# Altium footprint library con-pc.PCBLIB: 18 footprints (part 2 of 2)
Each footprint in its own frame and in the unit in brackets; x right, y up, seen from the top. Pads: shape width x height; smd on the part's side, far side on the other; paste and mask are expansions set on the pad; w line width, h text height; cw(c..) or ccw(c..) is an arc to the next point about the centre after c.
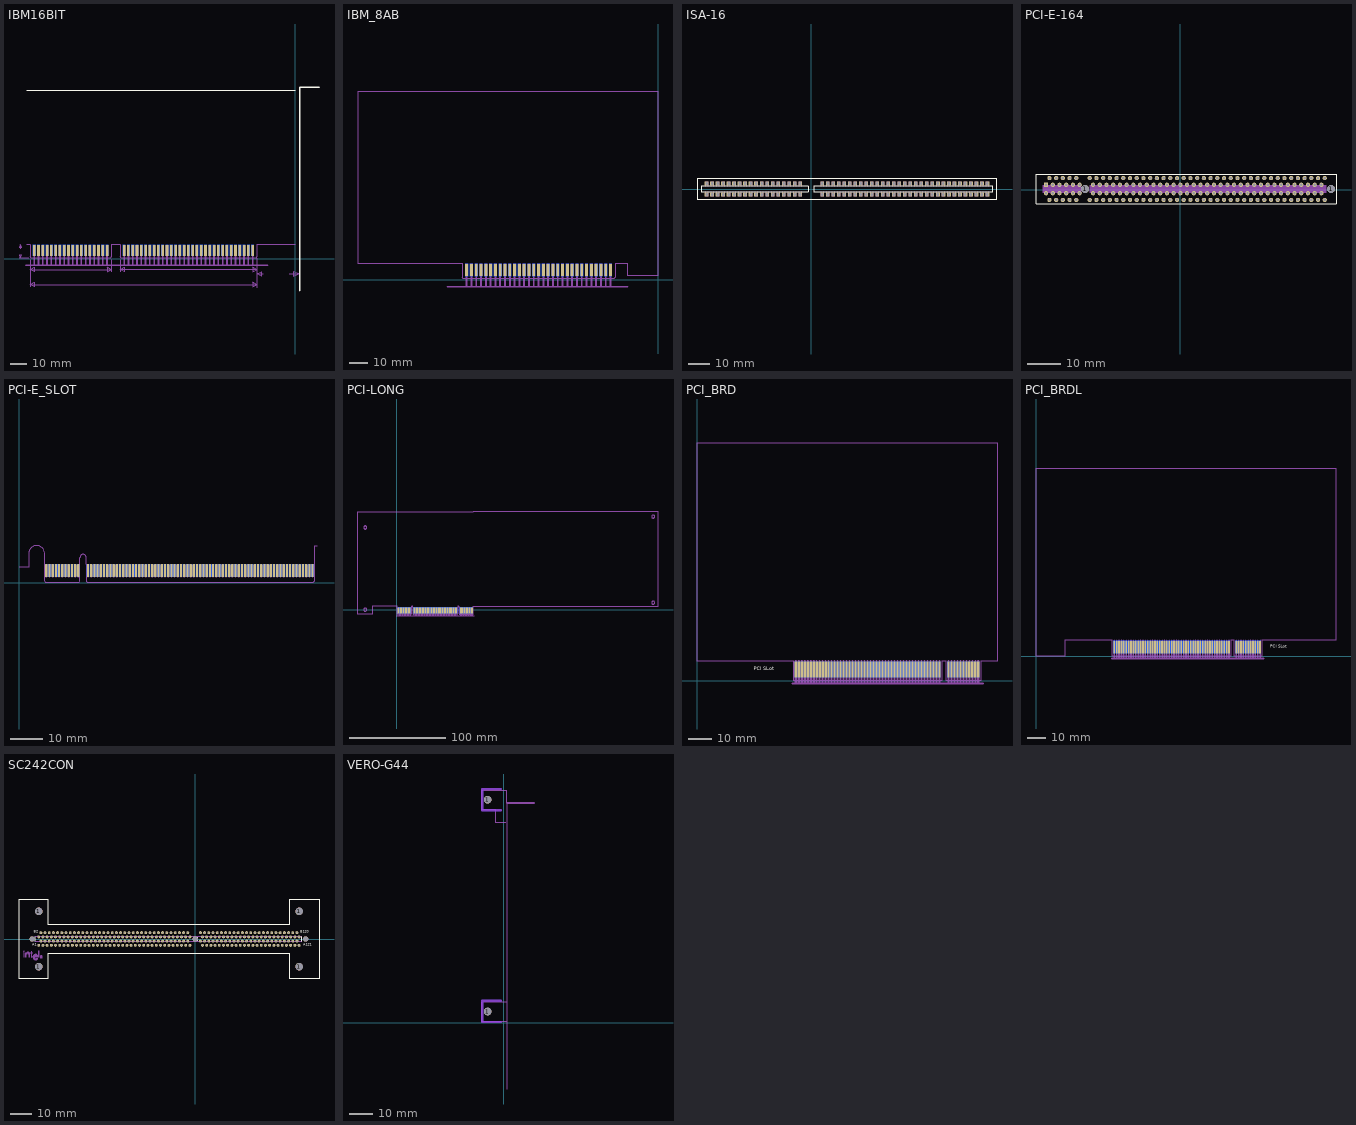
[diagram p1: the footprints below, top view; thin cyan lines are the x and y axes]

## IBM16BIT [mil]
pads (98):
  rect 60x255 smd: A1(-1000,200) A2(-1100,200) A3(-1200,200) A4(-1300,200) A5(-1400,200) A6(-1500,200) A7(-1600,200) A8(-1700,200) A9(-1800,200) A10(-1900,200) A11(-2000,200) A12(-2100,200) A13(-2200,200) A14(-2300,200) A15(-2400,200) A16(-2500,200) A17(-2600,200) A18(-2700,200) A19(-2800,200) A20(-2900,200) A21(-3000,200) A22(-3100,200) A23(-3200,200) A24(-3300,200) A25(-3400,200) A26(-3500,200) A27(-3600,200) A28(-3700,200) A29(-3800,200) A30(-3900,200) A31(-4000,200) C1(-4400,200) C2(-4500,200) C3(-4600,200) C4(-4700,200) C5(-4800,200) C6(-4900,200) C7(-5000,200) C8(-5100,200) C9(-5200,200) C10(-5300,200) C11(-5400,200) C12(-5500,200) C13(-5600,200) C14(-5700,200) C15(-5800,200) C16(-5900,200) C17(-6000,200) C18(-6100,200)
  rect 60x255 smd far side: B1(-1000,200) B2(-1100,200) B3(-1200,200) B4(-1300,200) B5(-1400,200) B6(-1500,200) B7(-1600,200) B8(-1700,200) B9(-1800,200) B10(-1900,200) B11(-2000,200) B12(-2100,200) B13(-2200,200) B14(-2300,200) B15(-2400,200) B16(-2500,200) B17(-2600,200) B18(-2700,200) B19(-2800,200) B20(-2900,200) B21(-3000,200) B22(-3100,200) B23(-3200,200) B24(-3300,200) B25(-3400,200) B26(-3500,200) B27(-3600,200) B28(-3700,200) B29(-3800,200) B30(-3900,200) B31(-4000,200) D1(-4400,200) D2(-4500,200) D3(-4600,200) D4(-4700,200) D5(-4800,200) D6(-4900,200) D7(-5000,200) D8(-5100,200) D9(-5200,200) D10(-5300,200) D11(-5400,200) D12(-5500,200) D13(-5600,200) D14(-5700,200) D15(-5800,200) D16(-5900,200) D17(-6000,200) D18(-6100,200)
Top Overlay:
  lines w8: -6275,3925 -10,3925
  lines w40: 100,-746 100,4012 550,4012
Mechanical 1:
  lines w0: -6195,-250 -6195,-20
  lines w8: -6275,330 -6195,330 -6195,45 -6170,20 -4330,20 -4305,45 -4305,330 -4095,330 -4095,45 -4070,20 -930,20 -905,45 -905,330 -10,330
Mechanical 13:
  lines w0: -6456,20 -6421,20 ; -6421,102 -6421,20 ; -6421,243 -6421,330 ; -6224,20 -6421,20 ; -6195,-655 -6195,-600 ; -6195,-370 -6195,-600 ; -6195,-355 -6195,-250 ; -4305,-305 -4305,-20 ; -4095,-305 -4095,-20 ; -905,-670 -905,16 ; -750,-350 -900,-350 ; -150,-350 80,-350 ; -6421,20 -6394,84 -6448,84 -6421,20 ; -6421,330 -6449,271 -6393,271 -6421,330 ; -6195,-600 -906,-600 ; -6195,-600 -6100,-550 -6100,-650 -6195,-600 ; -6195,-250 -4306,-250 ; -6195,-250 -6100,-200 -6100,-300 -6195,-250 ; -4306,-250 -4400,-200 -4400,-300 -4306,-250 ; -4094,-250 -906,-250 ; -4094,-250 -4000,-200 -4000,-300 -4094,-250 ; -906,-600 -1000,-550 -1000,-650 -906,-600 ; -906,-250 -1000,-200 -1000,-300 -906,-250 ; -900,-350 -800,-300 -800,-400 -900,-350 ; 80,-350 -50,-300 -50,-400 80,-350
  text "7,87 mm" at -6696,142 h108.5
  text "5.08 mm" at -4300,-450 h124
  text "134,3 mm -0,3" at -3850,-750 h124
  text "48,1 mm" at -5450,-350 h124
  text "81.1 mm" at -2733,-341 h108.5
  text "25.0 mm" at -686,-378 h108.5
  text "max." at -686,-478 h108.5
Mechanical 23:
  rectangle: -6130,70 -6070,330
  rectangle: -6030,70 -5970,330
  rectangle: -5930,70 -5870,330
  rectangle: -5830,70 -5770,330
  rectangle: -5730,70 -5670,330
  rectangle: -5630,70 -5570,330
  rectangle: -5530,70 -5470,330
  rectangle: -5430,70 -5370,330
  rectangle: -5330,70 -5270,330
  rectangle: -5230,70 -5170,330
  rectangle: -5130,70 -5070,330
  rectangle: -5030,70 -4970,330
  rectangle: -4930,70 -4870,330
  rectangle: -4830,70 -4770,330
  rectangle: -4730,70 -4670,330
  rectangle: -4630,70 -4570,330
  rectangle: -4530,70 -4470,330
  rectangle: -4430,70 -4370,330
  rectangle: -4030,70 -3970,330
  rectangle: -3930,70 -3870,330
  rectangle: -3830,70 -3770,330
  rectangle: -3730,70 -3670,330
  rectangle: -3630,70 -3570,330
  rectangle: -3530,70 -3470,330
  rectangle: -3430,70 -3370,330
  rectangle: -3330,70 -3270,330
  rectangle: -3230,70 -3170,330
  rectangle: -3130,70 -3070,330
  rectangle: -3030,70 -2970,330
  rectangle: -2930,70 -2870,330
  rectangle: -2830,70 -2770,330
  rectangle: -2730,70 -2670,330
  rectangle: -2630,70 -2570,330
  rectangle: -2530,70 -2470,330
  rectangle: -2430,70 -2370,330
  rectangle: -2330,70 -2270,330
  rectangle: -2230,70 -2170,330
  rectangle: -2130,70 -2070,330
  rectangle: -2030,70 -1970,330
  rectangle: -1930,70 -1870,330
  rectangle: -1830,70 -1770,330
  rectangle: -1730,70 -1670,330
  rectangle: -1630,70 -1570,330
  rectangle: -1530,70 -1470,330
  rectangle: -1430,70 -1370,330
  rectangle: -1330,70 -1270,330
  rectangle: -1230,70 -1170,330
  rectangle: -1130,70 -1070,330
  rectangle: -1030,70 -970,330
  lines w40: -6300,-150 -650,-150 ; -6100,-150 -6100,100 ; -6000,-150 -6000,100 ; -5900,-150 -5900,100 ; -5800,-150 -5800,100 ; -5700,-150 -5700,100 ; -5600,-150 -5600,100 ; -5500,-150 -5500,100 ; -5400,-150 -5400,100 ; -5300,-150 -5300,100 ; -5200,-150 -5200,100 ; -5100,-150 -5100,100 ; -5000,-150 -5000,100 ; -4900,-150 -4900,100 ; -4800,-150 -4800,100 ; -4700,-150 -4700,100 ; -4600,-150 -4600,100 ; -4500,-150 -4500,100 ; -4400,-150 -4400,100 ; -4000,-150 -4000,100 ; -3900,-150 -3900,100 ; -3800,-150 -3800,100 ; -3700,-150 -3700,100 ; -3600,-150 -3600,100 ; -3500,-150 -3500,100 ; -3400,-150 -3400,100 ; -3300,-150 -3300,100 ; -3200,-150 -3200,100 ; -3100,-150 -3100,100 ; -3000,-150 -3000,100 ; -2900,-150 -2900,100 ; -2800,-150 -2800,100 ; -2700,-150 -2700,100 ; -2600,-150 -2600,100 ; -2500,-150 -2500,100 ; -2400,-150 -2400,100 ; -2300,-150 -2300,100 ; -2200,-150 -2200,100 ; -2100,-150 -2100,100 ; -2000,-150 -2000,100 ; -1900,-150 -1900,100 ; -1800,-150 -1800,100 ; -1700,-150 -1700,100 ; -1600,-150 -1600,100 ; -1500,-150 -1500,100 ; -1400,-150 -1400,100 ; -1300,-150 -1300,100 ; -1200,-150 -1200,100 ; -1100,-150 -1100,100 ; -1000,-150 -1000,100
Mechanical 24:
  rectangle: -6130,70 -6070,330
  rectangle: -6030,70 -5970,330
  rectangle: -5930,70 -5870,330
  rectangle: -5830,70 -5770,330
  rectangle: -5730,70 -5670,330
  rectangle: -5630,70 -5570,330
  rectangle: -5530,70 -5470,330
  rectangle: -5430,70 -5370,330
  rectangle: -5330,70 -5270,330
  rectangle: -5230,70 -5170,330
  rectangle: -5130,70 -5070,330
  rectangle: -5030,70 -4970,330
  rectangle: -4930,70 -4870,330
  rectangle: -4830,70 -4770,330
  rectangle: -4730,70 -4670,330
  rectangle: -4630,70 -4570,330
  rectangle: -4530,70 -4470,330
  rectangle: -4430,70 -4370,330
  rectangle: -4030,70 -3970,330
  rectangle: -3930,70 -3870,330
  rectangle: -3830,70 -3770,330
  rectangle: -3730,70 -3670,330
  rectangle: -3630,70 -3570,330
  rectangle: -3530,70 -3470,330
  rectangle: -3430,70 -3370,330
  rectangle: -3330,70 -3270,330
  rectangle: -3230,70 -3170,330
  rectangle: -3130,70 -3070,330
  rectangle: -3030,70 -2970,330
  rectangle: -2930,70 -2870,330
  rectangle: -2830,70 -2770,330
  rectangle: -2730,70 -2670,330
  rectangle: -2630,70 -2570,330
  rectangle: -2530,70 -2470,330
  rectangle: -2430,70 -2370,330
  rectangle: -2330,70 -2270,330
  rectangle: -2230,70 -2170,330
  rectangle: -2130,70 -2070,330
  rectangle: -2030,70 -1970,330
  rectangle: -1930,70 -1870,330
  rectangle: -1830,70 -1770,330
  rectangle: -1730,70 -1670,330
  rectangle: -1630,70 -1570,330
  rectangle: -1530,70 -1470,330
  rectangle: -1430,70 -1370,330
  rectangle: -1330,70 -1270,330
  rectangle: -1230,70 -1170,330
  rectangle: -1130,70 -1070,330
  rectangle: -1030,70 -970,330
  lines w40: -6300,-150 -650,-150 ; -6100,-150 -6100,100 ; -6000,-150 -6000,100 ; -5900,-150 -5900,100 ; -5800,-150 -5800,100 ; -5700,-150 -5700,100 ; -5600,-150 -5600,100 ; -5500,-150 -5500,100 ; -5400,-150 -5400,100 ; -5300,-150 -5300,100 ; -5200,-150 -5200,100 ; -5100,-150 -5100,100 ; -5000,-150 -5000,100 ; -4900,-150 -4900,100 ; -4800,-150 -4800,100 ; -4700,-150 -4700,100 ; -4600,-150 -4600,100 ; -4500,-150 -4500,100 ; -4400,-150 -4400,100 ; -4000,-150 -4000,100 ; -3900,-150 -3900,100 ; -3800,-150 -3800,100 ; -3700,-150 -3700,100 ; -3600,-150 -3600,100 ; -3500,-150 -3500,100 ; -3400,-150 -3400,100 ; -3300,-150 -3300,100 ; -3200,-150 -3200,100 ; -3100,-150 -3100,100 ; -3000,-150 -3000,100 ; -2900,-150 -2900,100 ; -2800,-150 -2800,100 ; -2700,-150 -2700,100 ; -2600,-150 -2600,100 ; -2500,-150 -2500,100 ; -2400,-150 -2400,100 ; -2300,-150 -2300,100 ; -2200,-150 -2200,100 ; -2100,-150 -2100,100 ; -2000,-150 -2000,100 ; -1900,-150 -1900,100 ; -1800,-150 -1800,100 ; -1700,-150 -1700,100 ; -1600,-150 -1600,100 ; -1500,-150 -1500,100 ; -1400,-150 -1400,100 ; -1300,-150 -1300,100 ; -1200,-150 -1200,100 ; -1100,-150 -1100,100 ; -1000,-150 -1000,100

## IBM_8AB [mil]
pads (62):
  rect 60x255 smd: A1(-1000,200) A2(-1100,200) A3(-1200,200) A4(-1300,200) A5(-1400,200) A6(-1500,200) A7(-1600,200) A8(-1700,200) A9(-1800,200) A10(-1900,200) A11(-2000,200) A12(-2100,200) A13(-2200,200) A14(-2300,200) A15(-2400,200) A16(-2500,200) A17(-2600,200) A18(-2700,200) A19(-2800,200) A20(-2900,200) A21(-3000,200) A22(-3100,200) A23(-3200,200) A24(-3300,200) A25(-3400,200) A26(-3500,200) A27(-3600,200) A28(-3700,200) A29(-3800,200) A30(-3900,200) A31(-4000,200)
  rect 60x255 smd far side: B1(-1000,200) B2(-1100,200) B3(-1200,200) B4(-1300,200) B5(-1400,200) B6(-1500,200) B7(-1600,200) B8(-1700,200) B9(-1800,200) B10(-1900,200) B11(-2000,200) B12(-2100,200) B13(-2200,200) B14(-2300,200) B15(-2400,200) B16(-2500,200) B17(-2600,200) B18(-2700,200) B19(-2800,200) B20(-2900,200) B21(-3000,200) B22(-3100,200) B23(-3200,200) B24(-3300,200) B25(-3400,200) B26(-3500,200) B27(-3600,200) B28(-3700,200) B29(-3800,200) B30(-3900,200) B31(-4000,200)
Mechanical 1:
  lines w10: -6265,340 -4095,340 -4095,45 -4070,20 -930,20 -905,45 -905,330 -645,330 -645,80 -10,80 -10,3926 -6265,3925 -6265,340
Mechanical 23:
  rectangle: -4030,70 -3970,330
  rectangle: -3930,70 -3870,330
  rectangle: -3830,70 -3770,330
  rectangle: -3730,70 -3670,330
  rectangle: -3630,70 -3570,330
  rectangle: -3530,70 -3470,330
  rectangle: -3430,70 -3370,330
  rectangle: -3330,70 -3270,330
  rectangle: -3230,70 -3170,330
  rectangle: -3130,70 -3070,330
  rectangle: -3030,70 -2970,330
  rectangle: -2930,70 -2870,330
  rectangle: -2830,70 -2770,330
  rectangle: -2730,70 -2670,330
  rectangle: -2630,70 -2570,330
  rectangle: -2530,70 -2470,330
  rectangle: -2430,70 -2370,330
  rectangle: -2330,70 -2270,330
  rectangle: -2230,70 -2170,330
  rectangle: -2130,70 -2070,330
  rectangle: -2030,70 -1970,330
  rectangle: -1930,70 -1870,330
  rectangle: -1830,70 -1770,330
  rectangle: -1730,70 -1670,330
  rectangle: -1630,70 -1570,330
  rectangle: -1530,70 -1470,330
  rectangle: -1430,70 -1370,330
  rectangle: -1330,70 -1270,330
  rectangle: -1230,70 -1170,330
  rectangle: -1130,70 -1070,330
  rectangle: -1030,70 -970,330
  lines w40: -4400,-150 -650,-150 ; -4000,-150 -4000,100 ; -3900,-150 -3900,100 ; -3800,-150 -3800,100 ; -3700,-150 -3700,100 ; -3600,-150 -3600,100 ; -3500,-150 -3500,100 ; -3400,-150 -3400,100 ; -3300,-150 -3300,100 ; -3200,-150 -3200,100 ; -3100,-150 -3100,100 ; -3000,-150 -3000,100 ; -2900,-150 -2900,100 ; -2800,-150 -2800,100 ; -2700,-150 -2700,100 ; -2600,-150 -2600,100 ; -2500,-150 -2500,100 ; -2400,-150 -2400,100 ; -2300,-150 -2300,100 ; -2200,-150 -2200,100 ; -2100,-150 -2100,100 ; -2000,-150 -2000,100 ; -1900,-150 -1900,100 ; -1800,-150 -1800,100 ; -1700,-150 -1700,100 ; -1600,-150 -1600,100 ; -1500,-150 -1500,100 ; -1400,-150 -1400,100 ; -1300,-150 -1300,100 ; -1200,-150 -1200,100 ; -1100,-150 -1100,100 ; -1000,-150 -1000,100
Mechanical 24:
  rectangle: -4030,70 -3970,330
  rectangle: -3930,70 -3870,330
  rectangle: -3830,70 -3770,330
  rectangle: -3730,70 -3670,330
  rectangle: -3630,70 -3570,330
  rectangle: -3530,70 -3470,330
  rectangle: -3430,70 -3370,330
  rectangle: -3330,70 -3270,330
  rectangle: -3230,70 -3170,330
  rectangle: -3130,70 -3070,330
  rectangle: -3030,70 -2970,330
  rectangle: -2930,70 -2870,330
  rectangle: -2830,70 -2770,330
  rectangle: -2730,70 -2670,330
  rectangle: -2630,70 -2570,330
  rectangle: -2530,70 -2470,330
  rectangle: -2430,70 -2370,330
  rectangle: -2330,70 -2270,330
  rectangle: -2230,70 -2170,330
  rectangle: -2130,70 -2070,330
  rectangle: -2030,70 -1970,330
  rectangle: -1930,70 -1870,330
  rectangle: -1830,70 -1770,330
  rectangle: -1730,70 -1670,330
  rectangle: -1630,70 -1570,330
  rectangle: -1530,70 -1470,330
  rectangle: -1430,70 -1370,330
  rectangle: -1330,70 -1270,330
  rectangle: -1230,70 -1170,330
  rectangle: -1130,70 -1070,330
  rectangle: -1030,70 -970,330
  lines w40: -4400,-150 -650,-150 ; -4000,-150 -4000,100 ; -3900,-150 -3900,100 ; -3800,-150 -3800,100 ; -3700,-150 -3700,100 ; -3600,-150 -3600,100 ; -3500,-150 -3500,100 ; -3400,-150 -3400,100 ; -3300,-150 -3300,100 ; -3200,-150 -3200,100 ; -3100,-150 -3100,100 ; -3000,-150 -3000,100 ; -2900,-150 -2900,100 ; -2800,-150 -2800,100 ; -2700,-150 -2700,100 ; -2600,-150 -2600,100 ; -2500,-150 -2500,100 ; -2400,-150 -2400,100 ; -2300,-150 -2300,100 ; -2200,-150 -2200,100 ; -2100,-150 -2100,100 ; -2000,-150 -2000,100 ; -1900,-150 -1900,100 ; -1800,-150 -1800,100 ; -1700,-150 -1700,100 ; -1600,-150 -1600,100 ; -1500,-150 -1500,100 ; -1400,-150 -1400,100 ; -1300,-150 -1300,100 ; -1200,-150 -1200,100 ; -1100,-150 -1100,100 ; -1000,-150 -1000,100

## ISA-16 [mil]
pads (98):
  rect 70x70 hole 47.24: A1(3200,-100) A2(3100,-100) A3(3000,-100) A4(2900,-100) A5(2800,-100) A6(2700,-100) A7(2600,-100) A8(2500,-100) A9(2400,-100) A10(2300,-100) A11(2200,-100) A12(2100,-100) A13(2000,-100) A14(1900,-100) A15(1800,-100) A16(1700,-100) A17(1600,-100) A18(1500,-100) A19(1400,-100) A20(1300,-100) A21(1200,-100) A22(1100,-100) A23(1000,-100) A24(900,-100) A25(800,-100) A26(700,-100) A27(600,-100) A28(500,-100) A29(400,-100) A30(300,-100) A31(200,-100) B1(3200,100) B2(3100,100) B3(3000,100) B4(2900,100) B5(2800,100) B6(2700,100) B7(2600,100) B8(2500,100) B9(2400,100) B10(2300,100) B11(2200,100) B12(2100,100) B13(2000,100) B14(1900,100) B15(1800,100) B16(1700,100) B17(1600,100) B18(1500,100) B19(1400,100) B20(1300,100) B21(1200,100) B22(1100,100) B23(1000,100) B24(900,100) B25(800,100) B26(700,100) B27(600,100) B28(500,100) B29(400,100) B30(300,100) B31(200,100) C1(-200,-100) C2(-300,-100) C3(-400,-100) C4(-500,-100) C5(-600,-100) C6(-700,-100) C7(-800,-100) C8(-900,-100) C9(-1000,-100) C10(-1100,-100) C11(-1200,-100) C12(-1300,-100) C13(-1400,-100) C14(-1500,-100) C15(-1600,-100) C16(-1700,-100) C17(-1800,-100) C18(-1900,-100) D1(-200,100) D2(-300,100) D3(-400,100) D4(-500,100) D5(-600,100) D6(-700,100) D7(-800,100) D8(-900,100) D9(-1000,100) D10(-1100,100) D11(-1200,100) D12(-1300,100) D13(-1400,100) D14(-1500,100) D15(-1600,100) D16(-1700,100) D17(-1800,100) D18(-1900,100)
Top Overlay:
  lines w10: -2075,-185 -2075,185 3375,185 3375,-185 -2075,-185 ; -2000,-50 -2000,50 -50,50 -50,-50 -2000,-50 ; 50,-50 3300,-50 3300,50 50,50 50,-50
Mechanical 13:
  text "kontakt-systeme inter / Wien" at 110,-20 h49.6
Mechanical 16:
  drawing of 294 lines, arcs and shapes, not listed

## PCI-E-164 [mm]
pads (166):
  round 2.35 hole 2.35: 1(-28.35,0.25) 1(44.9,0.25)
  rect 1.27x1.27 hole 0.7: A1(-40,1.5)
  round 1.27 hole 0.7: A2(-39,3.5) A3(-38,1.5) A4(-37,3.5) A5(-36,1.5) A6(-35,3.5) A7(-34,1.5) A8(-33,3.5) A9(-32,1.5) A10(-31,3.5) A11(-30,1.5) A12(-27,3.5) A13(-26,1.5) A14(-25,3.5) A15(-24,1.5) A16(-23,3.5) A17(-22,1.5) A18(-21,3.5) A19(-20,1.5) A20(-19,3.5) A21(-18,1.5) A22(-17,3.5) A23(-16,1.5) A24(-15,3.5) A25(-14,1.5) A26(-13,3.5) A27(-12,1.5) A28(-11,3.5) A29(-10,1.5) A30(-9,3.5) A31(-8,1.5) A32(-7,3.5) A33(-6,1.5) A34(-5,3.5) A35(-4,1.5) A36(-3,3.5) A37(-2,1.5) A38(-1,3.5) A39(0,1.5) A40(1,3.5) A41(2,1.5) A42(3,3.5) A43(4,1.5) A44(5,3.5) A45(6,1.5) A46(7,3.5) A47(8,1.5) A48(9,3.5) A49(10,1.5) A50(11,3.5) A51(12,1.5) A52(13,3.5) A53(14,1.5) A54(15,3.5) A55(16,1.5) A56(17,3.5) A57(18,1.5) A58(19,3.5) A59(20,1.5) A60(21,3.5) A61(22,1.5) A62(23,3.5) A63(24,1.5) A64(25,3.5) A65(26,1.5) A66(27,3.5) A67(28,1.5) A68(29,3.5) A69(30,1.5) A70(31,3.5) A71(32,1.5) A72(33,3.5) A73(34,1.5) A74(35,3.5) A75(36,1.5) A76(37,3.5) A77(38,1.5) A78(39,3.5) A79(40,1.5) A80(41,3.5) A81(42,1.5) A82(43,3.5) B1(-40,-1) B2(-39,-3) B3(-38,-1) B4(-37,-3) B5(-36,-1) B6(-35,-3) B7(-34,-1) B8(-33,-3) B9(-32,-1) B10(-31,-3) B11(-30,-1) B12(-27,-3) B13(-26,-1) B14(-25,-3) B15(-24,-1) B16(-23,-3) B17(-22,-1) B18(-21,-3) B19(-20,-1) B20(-19,-3) B21(-18,-1) B22(-17,-3) B23(-16,-1) B24(-15,-3) B25(-14,-1) B26(-13,-3) B27(-12,-1) B28(-11,-3) B29(-10,-1) B30(-9,-3) B31(-8,-1) B32(-7,-3) B33(-6,-1) B34(-5,-3) B35(-4,-1) B36(-3,-3) B37(-2,-1) B38(-1,-3) B39(0,-1) B40(1,-3) B41(2,-1) B42(3,-3) B43(4,-1) B44(5,-3) B45(6,-1) B46(7,-3) B47(8,-1) B48(9,-3) B49(10,-1) B50(11,-3) B51(12,-1) B52(13,-3) B53(14,-1) B54(15,-3) B55(16,-1) B56(17,-3) B57(18,-1) B58(19,-3) B59(20,-1) B60(21,-3) B61(22,-1) B62(23,-3) B63(24,-1) B64(25,-3) B65(26,-1) B66(27,-3) B67(28,-1) B68(29,-3) B69(30,-1) B70(31,-3) B71(32,-1) B72(33,-3) B73(34,-1) B74(35,-3) B75(36,-1) B76(37,-3) B77(38,-1) B78(39,-3) B79(40,-1) B80(41,-3) B81(42,-1) B82(43,-3)
Top Overlay:
  lines w0.127: -43,-4.15 -43,4.65 46.35,4.65 46.35,-4.15 -43,-4.15
Mechanical 16:
  rectangle: -41,-1 -29.5,1.5
  rectangle: -27,-1 43.5,1.5

## PCI-E_SLOT [mm]
pads (164):
  rrect40% 0.7x4 smd far side: A1(8.5,3.75) A2(9.5,3.75) A3(10.5,3.75) A4(11.5,3.75) A5(12.5,3.75) A6(13.5,3.75) A7(14.5,3.75) A8(15.5,3.75) A9(16.5,3.75) A10(17.5,3.75) A11(18.5,3.75) A12(21.5,3.75) A13(22.5,3.75) A14(23.5,3.75) A15(24.5,3.75) A16(25.5,3.75) A17(26.5,3.75) A18(27.5,3.75) A19(28.5,3.75) A20(29.5,3.75) A21(30.5,3.75) A22(31.5,3.75) A23(32.5,3.75) A24(33.5,3.75) A25(34.5,3.75) A26(35.5,3.75) A27(36.5,3.75) A28(37.5,3.75) A29(38.5,3.75) A30(39.5,3.75) A31(40.5,3.75) A32(41.5,3.75) A33(42.5,3.75) A34(43.5,3.75) A35(44.5,3.75) A36(45.5,3.75) A37(46.5,3.75) A38(47.5,3.75) A39(48.5,3.75) A40(49.5,3.75) A41(50.5,3.75) A42(51.5,3.75) A43(52.5,3.75) A44(53.5,3.75) A45(54.5,3.75) A46(55.5,3.75) A47(56.5,3.75) A48(57.5,3.75) A49(58.5,3.75) A50(59.5,3.75) A51(60.5,3.75) A52(61.5,3.75) A53(62.5,3.75) A54(63.5,3.75) A55(64.5,3.75) A56(65.5,3.75) A57(66.5,3.75) A58(67.5,3.75) A59(68.5,3.75) A60(69.5,3.75) A61(70.5,3.75) A62(71.5,3.75) A63(72.5,3.75) A64(73.5,3.75) A65(74.5,3.75) A66(75.5,3.75) A67(76.5,3.75) A68(77.5,3.75) A69(78.5,3.75) A70(79.5,3.75) A71(80.5,3.75) A72(81.5,3.75) A73(82.5,3.75) A74(83.5,3.75) A75(84.5,3.75) A76(85.5,3.75) A77(86.5,3.75) A78(87.5,3.75) A79(88.5,3.75) A80(89.5,3.75) A81(90.5,3.75) A82(91.5,3.75)
  rrect40% 0.7x4 smd: B1(8.5,3.75) B2(9.5,3.75) B3(10.5,3.75) B4(11.5,3.75) B5(12.5,3.75) B6(13.5,3.75) B7(14.5,3.75) B8(15.5,3.75) B9(16.5,3.75) B10(17.5,3.75) B11(18.5,3.75) B12(21.5,3.75) B13(22.5,3.75) B14(23.5,3.75) B15(24.5,3.75) B16(25.5,3.75) B17(26.5,3.75) B18(27.5,3.75) B19(28.5,3.75) B20(29.5,3.75) B21(30.5,3.75) B22(31.5,3.75) B23(32.5,3.75) B24(33.5,3.75) B25(34.5,3.75) B26(35.5,3.75) B27(36.5,3.75) B28(37.5,3.75) B29(38.5,3.75) B30(39.5,3.75) B31(40.5,3.75) B32(41.5,3.75) B33(42.5,3.75) B34(43.5,3.75) B35(44.5,3.75) B36(45.5,3.75) B37(46.5,3.75) B38(47.5,3.75) B39(48.5,3.75) B40(49.5,3.75) B41(50.5,3.75) B42(51.5,3.75) B43(52.5,3.75) B44(53.5,3.75) B45(54.5,3.75) B46(55.5,3.75) B47(56.5,3.75) B48(57.5,3.75) B49(58.5,3.75) B50(59.5,3.75) B51(60.5,3.75) B52(61.5,3.75) B53(62.5,3.75) B54(63.5,3.75) B55(64.5,3.75) B56(65.5,3.75) B57(66.5,3.75) B58(67.5,3.75) B59(68.5,3.75) B60(69.5,3.75) B61(70.5,3.75) B62(71.5,3.75) B63(72.5,3.75) B64(73.5,3.75) B65(74.5,3.75) B66(75.5,3.75) B67(76.5,3.75) B68(77.5,3.75) B69(78.5,3.75) B70(79.5,3.75) B71(80.5,3.75) B72(81.5,3.75) B73(82.5,3.75) B74(83.5,3.75) B75(84.5,3.75) B76(85.5,3.75) B77(86.5,3.75) B78(87.5,3.75) B79(88.5,3.75) B80(89.5,3.75) B81(90.5,3.75) B82(91.5,3.75)
Mechanical 1:
  lines w0: 0,4.75 3,4.75 3,9.05 ; 8,5.65 8,0.35 8.2,0.05 18.7,0.05 19,0.35 19,5.65 ; 21,5.65 21,0.35 21.3,0.05 91.7,0.05 92,0.35 92,11.55
  lines w0.07: 3,9.05 cw(c5.5,9.05) 5.5,11.55 cw(c5.5,9.05) 8,9.05 8,5.65 ; 19,5.7 19,7.8 cw(c20,7.8) 21,7.8 21,5.65 ; 92,11.55 93,11.55
Mechanical 23:
  lines w0.7: 8.5,2 8.5,5.5 ; 9.5,2 9.5,5.5 ; 10.5,2 10.5,5.5 ; 11.5,2 11.5,5.5 ; 12.5,2 12.5,5.5 ; 13.5,2 13.5,5.5 ; 14.5,2 14.5,5.5 ; 15.5,2 15.5,5.5 ; 16.5,2 16.5,5.5 ; 17.5,2 17.5,5.5 ; 18.5,2 18.5,5.5 ; 21.5,2 21.5,5.5 ; 22.5,2 22.5,5.5 ; 23.5,2 23.5,5.5 ; 24.5,2 24.5,5.5 ; 25.5,2 25.5,5.5 ; 26.5,2 26.5,5.5 ; 27.5,2 27.5,5.5 ; 28.5,2 28.5,5.5 ; 29.5,2 29.5,5.5 ; 30.5,2 30.5,5.5 ; 31.5,2 31.5,5.5 ; 32.5,2 32.5,5.5 ; 33.5,2 33.5,5.5 ; 34.5,2 34.5,5.5 ; 35.5,2 35.5,5.5 ; 36.5,2 36.5,5.5 ; 37.5,2 37.5,5.5 ; 38.5,2 38.5,5.5 ; 39.5,2 39.5,5.5 ; 40.5,2 40.5,5.5 ; 41.5,2 41.5,5.5 ; 42.5,2 42.5,5.5 ; 43.5,2 43.5,5.5 ; 44.5,2 44.5,5.5 ; 45.5,2 45.5,5.5 ; 46.5,2 46.5,5.5 ; 47.5,2 47.5,5.5 ; 48.5,2 48.5,5.5 ; 49.5,2 49.5,5.5 ; 50.5,2 50.5,5.5 ; 51.5,2 51.5,5.5 ; 52.5,2 52.5,5.5 ; 53.5,2 53.5,5.5 ; 54.5,2 54.5,5.5 ; 55.5,2 55.5,5.5 ; 56.5,2 56.5,5.5 ; 57.5,2 57.5,5.5 ; 58.5,2 58.5,5.5 ; 59.5,2 59.5,5.5 ; 60.5,2 60.5,5.5 ; 61.5,2 61.5,5.5 ; 62.5,2 62.5,5.5 ; 63.5,2 63.5,5.5 ; 64.5,2 64.5,5.5 ; 65.5,2 65.5,5.5 ; 66.5,2 66.5,5.5 ; 67.5,2 67.5,5.5 ; 68.5,2 68.5,5.5 ; 69.5,2 69.5,5.5 ; 70.5,2 70.5,5.5 ; 71.5,2 71.5,5.5 ; 72.5,2 72.5,5.5 ; 73.5,2 73.5,5.5 ; 74.5,2 74.5,5.5 ; 75.5,2 75.5,5.5 ; 76.5,2 76.5,5.5 ; 77.5,2 77.5,5.5 ; 78.5,2 78.5,5.5 ; 79.5,2 79.5,5.5 ; 80.5,2 80.5,5.5 ; 81.5,2 81.5,5.5 ; 82.5,2 82.5,5.5 ; 83.5,2 83.5,5.5 ; 84.5,2 84.5,5.5 ; 85.5,2 85.5,5.5 ; 86.5,2 86.5,5.5 ; 87.5,2 87.5,5.5 ; 88.5,2 88.5,5.5 ; 89.5,2 89.5,5.5 ; 90.5,2 90.5,5.5 ; 91.5,2 91.5,5.5
Mechanical 24:
  lines w0.7: 8.5,2 8.5,5.5 ; 9.5,2 9.5,5.5 ; 10.5,2 10.5,5.5 ; 11.5,2 11.5,5.5 ; 12.5,2 12.5,5.5 ; 13.5,2 13.5,5.5 ; 14.5,2 14.5,5.5 ; 15.5,2 15.5,5.5 ; 16.5,2 16.5,5.5 ; 17.5,2 17.5,5.5 ; 18.5,2 18.5,5.5 ; 21.5,2 21.5,5.5 ; 22.5,2 22.5,5.5 ; 23.5,2 23.5,5.5 ; 24.5,2 24.5,5.5 ; 25.5,2 25.5,5.5 ; 26.5,2 26.5,5.5 ; 27.5,2 27.5,5.5 ; 28.5,2 28.5,5.5 ; 29.5,2 29.5,5.5 ; 30.5,2 30.5,5.5 ; 31.5,2 31.5,5.5 ; 32.5,2 32.5,5.5 ; 33.5,2 33.5,5.5 ; 34.5,2 34.5,5.5 ; 35.5,2 35.5,5.5 ; 36.5,2 36.5,5.5 ; 37.5,2 37.5,5.5 ; 38.5,2 38.5,5.5 ; 39.5,2 39.5,5.5 ; 40.5,2 40.5,5.5 ; 41.5,2 41.5,5.5 ; 42.5,2 42.5,5.5 ; 43.5,2 43.5,5.5 ; 44.5,2 44.5,5.5 ; 45.5,2 45.5,5.5 ; 46.5,2 46.5,5.5 ; 47.5,2 47.5,5.5 ; 48.5,2 48.5,5.5 ; 49.5,2 49.5,5.5 ; 50.5,2 50.5,5.5 ; 51.5,2 51.5,5.5 ; 52.5,2 52.5,5.5 ; 53.5,2 53.5,5.5 ; 54.5,2 54.5,5.5 ; 55.5,2 55.5,5.5 ; 56.5,2 56.5,5.5 ; 57.5,2 57.5,5.5 ; 58.5,2 58.5,5.5 ; 59.5,2 59.5,5.5 ; 60.5,2 60.5,5.5 ; 61.5,2 61.5,5.5 ; 62.5,2 62.5,5.5 ; 63.5,2 63.5,5.5 ; 64.5,2 64.5,5.5 ; 65.5,2 65.5,5.5 ; 66.5,2 66.5,5.5 ; 67.5,2 67.5,5.5 ; 68.5,2 68.5,5.5 ; 69.5,2 69.5,5.5 ; 70.5,2 70.5,5.5 ; 71.5,2 71.5,5.5 ; 72.5,2 72.5,5.5 ; 73.5,2 73.5,5.5 ; 74.5,2 74.5,5.5 ; 75.5,2 75.5,5.5 ; 76.5,2 76.5,5.5 ; 77.5,2 77.5,5.5 ; 78.5,2 78.5,5.5 ; 79.5,2 79.5,5.5 ; 80.5,2 80.5,5.5 ; 81.5,2 81.5,5.5 ; 82.5,2 82.5,5.5 ; 83.5,2 83.5,5.5 ; 84.5,2 84.5,5.5 ; 85.5,2 85.5,5.5 ; 86.5,2 86.5,5.5 ; 87.5,2 87.5,5.5 ; 88.5,2 88.5,5.5 ; 89.5,2 89.5,5.5 ; 90.5,2 90.5,5.5 ; 91.5,2 91.5,5.5

## PCI-LONG [mil]
pads (116):
  rect 40x250 smd far side: A1(50,-25.32) A2(100,-25.32) A3(150,-25.32) A4(200,-25.32) A5(250,-25.32) A6(300,-25.32) A7(350,-25.32) A8(400,-25.32) A9(450,-25.32) A10(500,-25.32) A11(550,-25.32) A14(700,-25.32) A15(750,-25.32) A16(800,-25.32) A17(850,-25.32) A18(900,-25.32) A19(950,-25.32) A20(1000,-25.32) A21(1050,-25.32) A22(1100,-25.32) A23(1150,-25.32) A24(1200,-25.32) A25(1250,-25.32) A26(1300,-25.32) A27(1350,-25.32) A28(1400,-25.32) A29(1450,-25.32) A30(1500,-25.32) A31(1550,-25.32) A32(1600,-25.32) A33(1650,-25.32) A34(1700,-25.32) A35(1750,-25.32) A36(1800,-25.32) A37(1850,-25.32) A38(1900,-25.32) A39(1950,-25.32) A40(2000,-25.32) A41(2050,-25.32) A42(2100,-25.32) A43(2150,-25.32) A44(2200,-25.32) A45(2250,-25.32) A46(2300,-25.32) A47(2350,-25.32) A48(2400,-25.32) A49(2450,-25.32) A52(2600,-25.32) A53(2650,-25.32) A54(2700,-25.32) A55(2750,-25.32) A56(2800,-25.32) A57(2850,-25.32) A58(2900,-25.32) A59(2950,-25.32) A60(3000,-25.32) A61(3050,-25.32) A62(3100,-25.32)
  rect 40x250 smd: B1(50,-25.32) B2(100,-25.32) B3(150,-25.32) B4(200,-25.32) B5(250,-25.32) B6(300,-25.32) B7(350,-25.32) B8(400,-25.32) B9(450,-25.32) B10(500,-25.32) B11(550,-25.32) B14(700,-25.32) B15(750,-25.32) B16(800,-25.32) B17(850,-25.32) B18(900,-25.32) B19(950,-25.32) B20(1000,-25.32) B21(1050,-25.32) B22(1100,-25.32) B23(1150,-25.32) B24(1200,-25.32) B25(1250,-25.32) B26(1300,-25.32) B27(1350,-25.32) B28(1400,-25.32) B29(1450,-25.32) B30(1500,-25.32) B31(1550,-25.32) B32(1600,-25.32) B33(1650,-25.32) B34(1700,-25.32) B35(1750,-25.32) B36(1800,-25.32) B37(1850,-25.32) B38(1900,-25.32) B39(1950,-25.32) B40(2000,-25.32) B41(2050,-25.32) B42(2100,-25.32) B43(2150,-25.32) B44(2200,-25.32) B45(2250,-25.32) B46(2300,-25.32) B47(2350,-25.32) B48(2400,-25.32) B49(2450,-25.32) B52(2600,-25.32) B53(2650,-25.32) B54(2700,-25.32) B55(2750,-25.32) B56(2800,-25.32) B57(2850,-25.32) B58(2900,-25.32) B59(2950,-25.32) B60(3000,-25.32) B61(3050,-25.32) B62(3100,-25.32)
Top Solder:
  rectangle: -30,-270 3195,100
Bottom Solder:
  rectangle: -30,-270 3195,100
Mechanical 1:
  circle w1: c10495.7,289.07 r63.9
  circle w1: c10495.71,3813.87 r63.9
  circle w1: c-1292.52,3366.21 r63.9
  circle w1: c-1292.52,2.83 r63.9
  circle w10: c-1292.52,3366.22 r63.9
  lines w0: -1587.8,-186.18 -1587.8,-186.14 ; 661.66,102.56 ccw(c625.16,102.56) 588.66,102.56 588.7,102.56 ; 3133.07,139.06 3133.07,-170 3125,-180 3120,-186.14 2570,-186.14 2565,-180 2561.69,-175 2561.69,102.56 ; 3133.07,4013.86 -1587.8,4013.86 -1587.8,-186.14 ; 3133.11,139.09 10695.71,139.09 10695.71,4013.86 3133.11,4013.86 ; -1587.8,-186.14 -997.24,-186.14 -997.24,139.06 17.32,139.06 17.32,-175 20,-180 25,-186.14 580,-186.14 585,-180 588.7,-175 588.7,102.56 ; 588.7,102.56 cw(c625.2,102.56) 661.69,102.56 661.69,-175 665,-180 670,-186.14 2480,-186.14 2485,-180 2488.7,-175 2488.7,102.56 ; 2488.7,102.56 cw(c2525.2,102.56) 2561.7,102.56 ; 2488.7,102.56 cw(c2525.2,102.56) 2561.69,102.56
Mechanical 23:
  lines w40: -25,-250 3175,-250 ; 50,-250 50,75 ; 100,-250 100,75 ; 150,-250 150,75 ; 200,-250 200,75 ; 250,-250 250,75 ; 300,-250 300,75 ; 350,-250 350,75 ; 400,-250 400,75 ; 450,-250 450,75 ; 500,-250 500,75 ; 550,-250 550,75 ; 700,-250 700,75 ; 750,-250 750,75 ; 800,-250 800,75 ; 850,-250 850,75 ; 900,-250 900,75 ; 950,-250 950,75 ; 1000,-250 1000,75 ; 1050,-250 1050,75 ; 1100,-250 1100,75 ; 1150,-250 1150,75 ; 1200,-250 1200,75 ; 1250,-250 1250,75 ; 1300,-250 1300,75 ; 1350,-250 1350,75 ; 1400,-250 1400,75 ; 1450,-250 1450,75 ; 1500,-250 1500,75 ; 1550,-250 1550,75 ; 1600,-250 1600,75 ; 1650,-250 1650,75 ; 1700,-250 1700,75 ; 1750,-250 1750,75 ; 1800,-250 1800,75 ; 1850,-250 1850,75 ; 1900,-250 1900,75 ; 1950,-250 1950,75 ; 2000,-250 2000,75 ; 2050,-250 2050,75 ; 2100,-250 2100,75 ; 2150,-250 2150,75 ; 2200,-250 2200,75 ; 2250,-250 2250,75 ; 2300,-250 2300,75 ; 2350,-250 2350,75 ; 2400,-250 2400,75 ; 2450,-250 2450,75 ; 2600,-250 2600,75 ; 2650,-250 2650,75 ; 2700,-250 2700,75 ; 2750,-250 2750,75 ; 2800,-250 2800,75 ; 2850,-250 2850,75 ; 2900,-250 2900,75 ; 2950,-250 2950,75 ; 3000,-250 3000,75 ; 3050,-250 3050,75 ; 3100,-250 3100,75
Mechanical 24:
  lines w40: -25,-250 3175,-250 ; 50,-250 50,75 ; 100,-250 100,75 ; 150,-250 150,75 ; 200,-250 200,75 ; 250,-250 250,75 ; 300,-250 300,75 ; 350,-250 350,75 ; 400,-250 400,75 ; 450,-250 450,75 ; 500,-250 500,75 ; 550,-250 550,75 ; 700,-250 700,75 ; 750,-250 750,75 ; 800,-250 800,75 ; 850,-250 850,75 ; 900,-250 900,75 ; 950,-250 950,75 ; 1000,-250 1000,75 ; 1050,-250 1050,75 ; 1100,-250 1100,75 ; 1150,-250 1150,75 ; 1200,-250 1200,75 ; 1250,-250 1250,75 ; 1300,-250 1300,75 ; 1350,-250 1350,75 ; 1400,-250 1400,75 ; 1450,-250 1450,75 ; 1500,-250 1500,75 ; 1550,-250 1550,75 ; 1600,-250 1600,75 ; 1650,-250 1650,75 ; 1700,-250 1700,75 ; 1750,-250 1750,75 ; 1800,-250 1800,75 ; 1850,-250 1850,75 ; 1900,-250 1900,75 ; 1950,-250 1950,75 ; 2000,-250 2000,75 ; 2050,-250 2050,75 ; 2100,-250 2100,75 ; 2150,-250 2150,75 ; 2200,-250 2200,75 ; 2250,-250 2250,75 ; 2300,-250 2300,75 ; 2350,-250 2350,75 ; 2400,-250 2400,75 ; 2450,-250 2450,75 ; 2600,-250 2600,75 ; 2650,-250 2650,75 ; 2700,-250 2700,75 ; 2750,-250 2750,75 ; 2800,-250 2800,75 ; 2850,-250 2850,75 ; 2900,-250 2900,75 ; 2950,-250 2950,75 ; 3000,-250 3000,75 ; 3050,-250 3050,75 ; 3100,-250 3100,75

## PCI_BRD [mil]
pads (120):
  rect 35.83x263.78 smd: C1(1650,187.5) C2(1700,187.5) C3(1750,187.5) C4(1800,187.5) C5(1850,187.5) C6(1900,187.5) C7(1950,187.5) C8(2000,187.5) C9(2050,187.5) C10(2100,187.5) C11(2150,187.5) C12(2200,187.5) C13(2250,187.5) C14(2300,187.5) C15(2350,187.5) C16(2400,187.5) C17(2450,187.5) C18(2500,187.5) C19(2550,187.5) C20(2600,187.5) C21(2650,187.5) C22(2700,187.5) C23(2750,187.5) C24(2800,187.5) C25(2850,187.5) C26(2900,187.5) C27(2950,187.5) C28(3000,187.5) C29(3050,187.5) C30(3100,187.5) C31(3150,187.5) C32(3200,187.5) C33(3250,187.5) C34(3300,187.5) C35(3350,187.5) C36(3400,187.5) C37(3450,187.5) C38(3500,187.5) C39(3550,187.5) C40(3600,187.5) C41(3650,187.5) C42(3700,187.5) C43(3750,187.5) C44(3800,187.5) C45(3850,187.5) C46(3900,187.5) C47(3950,187.5) C48(4000,187.5) C49(4050,187.5) C52(4200,187.5) C53(4250,187.5) C54(4300,187.5) C55(4350,187.5) C56(4400,187.5) C57(4450,187.5) C58(4500,187.5) C59(4550,187.5) C60(4600,187.5) C61(4650,187.5) C62(4700,187.5)
  rect 35.83x263.78 smd far side: S1(1650,187.5) S2(1700,187.5) S3(1750,187.5) S4(1800,187.5) S5(1850,187.5) S6(1900,187.5) S7(1950,187.5) S8(2000,187.5) S9(2050,187.5) S10(2100,187.5) S11(2150,187.5) S12(2200,187.5) S13(2250,187.5) S14(2300,187.5) S15(2350,187.5) S16(2400,187.5) S17(2450,187.5) S18(2500,187.5) S19(2550,187.5) S20(2600,187.5) S21(2650,187.5) S22(2700,187.5) S23(2750,187.5) S24(2800,187.5) S25(2850,187.5) S26(2900,187.5) S27(2950,187.5) S28(3000,187.5) S29(3050,187.5) S30(3100,187.5) S31(3150,187.5) S32(3200,187.5) S33(3250,187.5) S34(3300,187.5) S35(3350,187.5) S36(3400,187.5) S37(3450,187.5) S38(3500,187.5) S39(3550,187.5) S40(3600,187.5) S41(3650,187.5) S42(3700,187.5) S43(3750,187.5) S44(3800,187.5) S45(3850,187.5) S46(3900,187.5) S47(3950,187.5) S48(4000,187.5) S49(4050,187.5) S52(4200,187.5) S53(4250,187.5) S54(4300,187.5) S55(4350,187.5) S56(4400,187.5) S57(4450,187.5) S58(4500,187.5) S59(4550,187.5) S60(4600,187.5) S61(4650,187.5) S62(4700,187.5)
Top Overlay:
  text "PCI SLot" at 950,150 h108.5
Top Solder:
  rectangle: 1600,-75 4775,325
Bottom Solder:
  rectangle: 1600,-75 4775,325
Mechanical 1:
  lines w0: 0,325 0,3975 5012.5,3975 5012.5,325 4737.5,325 4737.5,0 4162.5,0 4162.5,325 4087.5,325 4087.5,0 1612.5,0 1612.5,325 0,325
Mechanical 23:
  lines w35: 1600,-50 4775,-50 ; 1650,-50 1650,325 ; 1700,-50 1700,325 ; 1750,-50 1750,325 ; 1800,-50 1800,325 ; 1850,-50 1850,325 ; 1900,-50 1900,325 ; 1950,-50 1950,325 ; 2000,-50 2000,325 ; 2050,-50 2050,325 ; 2100,-50 2100,325 ; 2150,-50 2150,325 ; 2200,-50 2200,325 ; 2250,-50 2250,325 ; 2300,-50 2300,325 ; 2350,-50 2350,325 ; 2400,-50 2400,325 ; 2450,-50 2450,325 ; 2500,-50 2500,325 ; 2550,-50 2550,325 ; 2600,-50 2600,325 ; 2650,-50 2650,325 ; 2700,-50 2700,325 ; 2750,-50 2750,325 ; 2800,-50 2800,325 ; 2850,-50 2850,325 ; 2900,-50 2900,325 ; 2950,-50 2950,325 ; 3000,-50 3000,325 ; 3050,-50 3050,325 ; 3100,-50 3100,325 ; 3150,-50 3150,325 ; 3200,-50 3200,325 ; 3250,-50 3250,325 ; 3300,-50 3300,325 ; 3350,-50 3350,325 ; 3400,-50 3400,325 ; 3450,-50 3450,325 ; 3500,-50 3500,325 ; 3550,-50 3550,325 ; 3600,-50 3600,325 ; 3650,-50 3650,325 ; 3700,-50 3700,325 ; 3750,-50 3750,325 ; 3800,-50 3800,325 ; 3850,-50 3850,325 ; 3900,-50 3900,325 ; 3950,-50 3950,325 ; 4000,-50 4000,325 ; 4050,-50 4050,325 ; 4200,-50 4200,325 ; 4250,-50 4250,325 ; 4300,-50 4300,325 ; 4350,-50 4350,325 ; 4400,-50 4400,325 ; 4450,-50 4450,325 ; 4500,-50 4500,325 ; 4550,-50 4550,325 ; 4600,-50 4600,325 ; 4650,-50 4650,325 ; 4700,-50 4700,325
Mechanical 24:
  lines w35: 1600,-50 4775,-50 ; 1650,-50 1650,325 ; 1700,-50 1700,325 ; 1750,-50 1750,325 ; 1800,-50 1800,325 ; 1850,-50 1850,325 ; 1900,-50 1900,325 ; 1950,-50 1950,325 ; 2000,-50 2000,325 ; 2050,-50 2050,325 ; 2100,-50 2100,325 ; 2150,-50 2150,325 ; 2200,-50 2200,325 ; 2250,-50 2250,325 ; 2300,-50 2300,325 ; 2350,-50 2350,325 ; 2400,-50 2400,325 ; 2450,-50 2450,325 ; 2500,-50 2500,325 ; 2550,-50 2550,325 ; 2600,-50 2600,325 ; 2650,-50 2650,325 ; 2700,-50 2700,325 ; 2750,-50 2750,325 ; 2800,-50 2800,325 ; 2850,-50 2850,325 ; 2900,-50 2900,325 ; 2950,-50 2950,325 ; 3000,-50 3000,325 ; 3050,-50 3050,325 ; 3100,-50 3100,325 ; 3150,-50 3150,325 ; 3200,-50 3200,325 ; 3250,-50 3250,325 ; 3300,-50 3300,325 ; 3350,-50 3350,325 ; 3400,-50 3400,325 ; 3450,-50 3450,325 ; 3500,-50 3500,325 ; 3550,-50 3550,325 ; 3600,-50 3600,325 ; 3650,-50 3650,325 ; 3700,-50 3700,325 ; 3750,-50 3750,325 ; 3800,-50 3800,325 ; 3850,-50 3850,325 ; 3900,-50 3900,325 ; 3950,-50 3950,325 ; 4000,-50 4000,325 ; 4050,-50 4050,325 ; 4200,-50 4200,325 ; 4250,-50 4250,325 ; 4300,-50 4300,325 ; 4350,-50 4350,325 ; 4400,-50 4400,325 ; 4450,-50 4450,325 ; 4500,-50 4500,325 ; 4550,-50 4550,325 ; 4600,-50 4600,325 ; 4650,-50 4650,325 ; 4700,-50 4700,325

## PCI_BRDL [mil]
pads (120):
  rect 35.83x263.78 smd: C1(1637.5,187.5) C2(1687.5,187.5) C3(1737.5,187.5) C4(1787.5,187.5) C5(1837.5,187.5) C6(1887.5,187.5) C7(1937.5,187.5) C8(1987.5,187.5) C9(2037.5,187.5) C10(2087.5,187.5) C11(2137.5,187.5) C12(2187.5,187.5) C13(2237.5,187.5) C14(2287.5,187.5) C15(2337.5,187.5) C16(2387.5,187.5) C17(2437.5,187.5) C18(2487.5,187.5) C19(2537.5,187.5) C20(2587.5,187.5) C21(2637.5,187.5) C22(2687.5,187.5) C23(2737.5,187.5) C24(2787.5,187.5) C25(2837.5,187.5) C26(2887.5,187.5) C27(2937.5,187.5) C28(2987.5,187.5) C29(3037.5,187.5) C30(3087.5,187.5) C31(3137.5,187.5) C32(3187.5,187.5) C33(3237.5,187.5) C34(3287.5,187.5) C35(3337.5,187.5) C36(3387.5,187.5) C37(3437.5,187.5) C38(3487.5,187.5) C39(3537.5,187.5) C40(3587.5,187.5) C41(3637.5,187.5) C42(3687.5,187.5) C43(3737.5,187.5) C44(3787.5,187.5) C45(3837.5,187.5) C46(3887.5,187.5) C47(3937.5,187.5) C48(3987.5,187.5) C49(4037.5,187.5) C52(4187.5,187.5) C53(4237.5,187.5) C54(4287.5,187.5) C55(4337.5,187.5) C56(4387.5,187.5) C57(4437.5,187.5) C58(4487.5,187.5) C59(4537.5,187.5) C60(4587.5,187.5) C61(4637.5,187.5) C62(4687.5,187.5)
  rect 35.83x263.78 smd far side: S1(1637.5,187.5) S2(1687.5,187.5) S3(1737.5,187.5) S4(1787.5,187.5) S5(1837.5,187.5) S6(1887.5,187.5) S7(1937.5,187.5) S8(1987.5,187.5) S9(2037.5,187.5) S10(2087.5,187.5) S11(2137.5,187.5) S12(2187.5,187.5) S13(2237.5,187.5) S14(2287.5,187.5) S15(2337.5,187.5) S16(2387.5,187.5) S17(2437.5,187.5) S18(2487.5,187.5) S19(2537.5,187.5) S20(2587.5,187.5) S21(2637.5,187.5) S22(2687.5,187.5) S23(2737.5,187.5) S24(2787.5,187.5) S25(2837.5,187.5) S26(2887.5,187.5) S27(2937.5,187.5) S28(2987.5,187.5) S29(3037.5,187.5) S30(3087.5,187.5) S31(3137.5,187.5) S32(3187.5,187.5) S33(3237.5,187.5) S34(3287.5,187.5) S35(3337.5,187.5) S36(3387.5,187.5) S37(3437.5,187.5) S38(3487.5,187.5) S39(3537.5,187.5) S40(3587.5,187.5) S41(3637.5,187.5) S42(3687.5,187.5) S43(3737.5,187.5) S44(3787.5,187.5) S45(3837.5,187.5) S46(3887.5,187.5) S47(3937.5,187.5) S48(3987.5,187.5) S49(4037.5,187.5) S52(4187.5,187.5) S53(4237.5,187.5) S54(4287.5,187.5) S55(4337.5,187.5) S56(4387.5,187.5) S57(4437.5,187.5) S58(4487.5,187.5) S59(4537.5,187.5) S60(4587.5,187.5) S61(4637.5,187.5) S62(4687.5,187.5)
Top Overlay:
  text "PCI SLot" at 4900,150 h108.5
Top Solder:
  rectangle: 1587.5,-75 4762.5,325
Bottom Solder:
  rectangle: 1587.5,-75 4762.5,325
Mechanical 1:
  lines w0: 0,0 0,3925 6275,3925 6275,325 4725,325 4725,0 4150,0 4150,325 4075,325 4075,0 1600,0 1600,325 600,325 600,0 0,0
Mechanical 23:
  lines w35: 1587.5,-50 4762.5,-50 ; 1637.5,-50 1637.5,325 ; 1687.5,-50 1687.5,325 ; 1737.5,-50 1737.5,325 ; 1787.5,-50 1787.5,325 ; 1837.5,-50 1837.5,325 ; 1887.5,-50 1887.5,325 ; 1937.5,-50 1937.5,325 ; 1987.5,-50 1987.5,325 ; 2037.5,-50 2037.5,325 ; 2087.5,-50 2087.5,325 ; 2137.5,-50 2137.5,325 ; 2187.5,-50 2187.5,325 ; 2237.5,-50 2237.5,325 ; 2287.5,-50 2287.5,325 ; 2337.5,-50 2337.5,325 ; 2387.5,-50 2387.5,325 ; 2437.5,-50 2437.5,325 ; 2487.5,-50 2487.5,325 ; 2537.5,-50 2537.5,325 ; 2587.5,-50 2587.5,325 ; 2637.5,-50 2637.5,325 ; 2687.5,-50 2687.5,325 ; 2737.5,-50 2737.5,325 ; 2787.5,-50 2787.5,325 ; 2837.5,-50 2837.5,325 ; 2887.5,-50 2887.5,325 ; 2937.5,-50 2937.5,325 ; 2987.5,-50 2987.5,325 ; 3037.5,-50 3037.5,325 ; 3087.5,-50 3087.5,325 ; 3137.5,-50 3137.5,325 ; 3187.5,-50 3187.5,325 ; 3237.5,-50 3237.5,325 ; 3287.5,-50 3287.5,325 ; 3337.5,-50 3337.5,325 ; 3387.5,-50 3387.5,325 ; 3437.5,-50 3437.5,325 ; 3487.5,-50 3487.5,325 ; 3537.5,-50 3537.5,325 ; 3587.5,-50 3587.5,325 ; 3637.5,-50 3637.5,325 ; 3687.5,-50 3687.5,325 ; 3737.5,-50 3737.5,325 ; 3787.5,-50 3787.5,325 ; 3837.5,-50 3837.5,325 ; 3887.5,-50 3887.5,325 ; 3937.5,-50 3937.5,325 ; 3987.5,-50 3987.5,325 ; 4037.5,-50 4037.5,325 ; 4187.5,-50 4187.5,325 ; 4237.5,-50 4237.5,325 ; 4287.5,-50 4287.5,325 ; 4337.5,-50 4337.5,325 ; 4387.5,-50 4387.5,325 ; 4437.5,-50 4437.5,325 ; 4487.5,-50 4487.5,325 ; 4537.5,-50 4537.5,325 ; 4587.5,-50 4587.5,325 ; 4637.5,-50 4637.5,325 ; 4687.5,-50 4687.5,325
Mechanical 24:
  lines w35: 1587.5,-50 4762.5,-50 ; 1637.5,-50 1637.5,325 ; 1687.5,-50 1687.5,325 ; 1737.5,-50 1737.5,325 ; 1787.5,-50 1787.5,325 ; 1837.5,-50 1837.5,325 ; 1887.5,-50 1887.5,325 ; 1937.5,-50 1937.5,325 ; 1987.5,-50 1987.5,325 ; 2037.5,-50 2037.5,325 ; 2087.5,-50 2087.5,325 ; 2137.5,-50 2137.5,325 ; 2187.5,-50 2187.5,325 ; 2237.5,-50 2237.5,325 ; 2287.5,-50 2287.5,325 ; 2337.5,-50 2337.5,325 ; 2387.5,-50 2387.5,325 ; 2437.5,-50 2437.5,325 ; 2487.5,-50 2487.5,325 ; 2537.5,-50 2537.5,325 ; 2587.5,-50 2587.5,325 ; 2637.5,-50 2637.5,325 ; 2687.5,-50 2687.5,325 ; 2737.5,-50 2737.5,325 ; 2787.5,-50 2787.5,325 ; 2837.5,-50 2837.5,325 ; 2887.5,-50 2887.5,325 ; 2937.5,-50 2937.5,325 ; 2987.5,-50 2987.5,325 ; 3037.5,-50 3037.5,325 ; 3087.5,-50 3087.5,325 ; 3137.5,-50 3137.5,325 ; 3187.5,-50 3187.5,325 ; 3237.5,-50 3237.5,325 ; 3287.5,-50 3287.5,325 ; 3337.5,-50 3337.5,325 ; 3387.5,-50 3387.5,325 ; 3437.5,-50 3437.5,325 ; 3487.5,-50 3487.5,325 ; 3537.5,-50 3537.5,325 ; 3587.5,-50 3587.5,325 ; 3637.5,-50 3637.5,325 ; 3687.5,-50 3687.5,325 ; 3737.5,-50 3737.5,325 ; 3787.5,-50 3787.5,325 ; 3837.5,-50 3837.5,325 ; 3887.5,-50 3887.5,325 ; 3937.5,-50 3937.5,325 ; 3987.5,-50 3987.5,325 ; 4037.5,-50 4037.5,325 ; 4187.5,-50 4187.5,325 ; 4237.5,-50 4237.5,325 ; 4287.5,-50 4287.5,325 ; 4337.5,-50 4337.5,325 ; 4387.5,-50 4387.5,325 ; 4437.5,-50 4437.5,325 ; 4487.5,-50 4487.5,325 ; 4537.5,-50 4537.5,325 ; 4587.5,-50 4587.5,325 ; 4637.5,-50 4637.5,325 ; 4687.5,-50 4687.5,325

## SC242CON [mm]
pads (249):
  round 2.5 hole 2.5: 1(-77.64,0) 1(0,0) 1(52.64,0)
  round 3.56 hole 3.56: 1(-74.46,-13.17) 1(-74.46,13.17) 1(49.52,-13.17) 1(49.52,13.17)
  round 1.4 hole 0.8: A1(-74.5,-3) A2(-73.5,-1) A3(-72.5,-3) A4(-71.5,-1) A5(-70.5,-3) A6(-69.5,-1) A7(-68.5,-3) A8(-67.5,-1) A9(-66.5,-3) A10(-65.5,-1) A11(-64.5,-3) A12(-63.5,-1) A13(-62.5,-3) A14(-61.5,-1) A15(-60.5,-3) A16(-59.5,-1) A17(-58.5,-3) A18(-57.5,-1) A19(-56.5,-3) A20(-55.5,-1) A21(-54.5,-3) A22(-53.5,-1) A23(-52.5,-3) A24(-51.5,-1) A25(-50.5,-3) A26(-49.5,-1) A27(-48.5,-3) A28(-47.5,-1) A29(-46.5,-3) A30(-45.5,-1) A31(-44.5,-3) A32(-43.5,-1) A33(-42.5,-3) A34(-41.5,-1) A35(-40.5,-3) A36(-39.5,-1) A37(-38.5,-3) A38(-37.5,-1) A39(-36.5,-3) A40(-35.5,-1) A41(-34.5,-3) A42(-33.5,-1) A43(-32.5,-3) A44(-31.5,-1) A45(-30.5,-3) A46(-29.5,-1) A47(-28.5,-3) A48(-27.5,-1) A49(-26.5,-3) A50(-25.5,-1) A51(-24.5,-3) A52(-23.5,-1) A53(-22.5,-3) A54(-21.5,-1) A55(-20.5,-3) A56(-19.5,-1) A57(-18.5,-3) A58(-17.5,-1) A59(-16.5,-3) A60(-15.5,-1) A61(-14.5,-3) A62(-13.5,-1) A63(-12.5,-3) A64(-11.5,-1) A65(-10.5,-3) A66(-9.5,-1) A67(-8.5,-3) A68(-7.5,-1) A69(-6.5,-3) A70(-5.5,-1) A71(-4.5,-3) A72(-3.5,-1) A73(-2.5,-3) A74(2.5,-1) A75(3.5,-3) A76(4.5,-1) A77(5.5,-3) A78(6.5,-1) A79(7.5,-3) A80(8.5,-1) A81(9.5,-3) A82(10.5,-1) A83(11.5,-3) A84(12.5,-1) A85(13.5,-3) A86(14.5,-1) A87(15.5,-3) A88(16.5,-1) A89(17.5,-3) A90(18.5,-1) A91(19.5,-3) A92(20.5,-1) A93(21.5,-3) A94(22.5,-1) A95(23.5,-3) A96(24.5,-1) A97(25.5,-3) A98(26.5,-1) A99(27.5,-3) A100(28.5,-1) A101(29.5,-3) A102(30.5,-1) A103(31.5,-3) A104(32.5,-1) A105(33.5,-3) A106(34.5,-1) A107(35.5,-3) A108(36.5,-1) A109(37.5,-3) A110(38.5,-1) A111(39.5,-3) A112(40.5,-1) A113(41.5,-3) A114(42.5,-1) A115(43.5,-3) A116(44.5,-1) A117(45.5,-3) A118(46.5,-1) A119(47.5,-3) A120(48.5,-1) A121(49.5,-3) B1(-74.5,1) B2(-73.5,3) B3(-72.5,1) B4(-71.5,3) B5(-70.5,1) B6(-69.5,3) B7(-68.5,1) B8(-67.5,3) B9(-66.5,1) B10(-65.5,3) B11(-64.5,1) B12(-63.5,3) B13(-62.5,1) B14(-61.5,3) B15(-60.5,1) B16(-59.5,3) B17(-58.5,1) B18(-57.5,3) B19(-56.5,1) B20(-55.5,3) B21(-54.5,1) B22(-53.5,3) B23(-52.5,1) B24(-51.5,3) B25(-50.5,1) B26(-49.5,3) B27(-48.5,1) B28(-47.5,3) B29(-46.5,1) B30(-45.5,3) B31(-44.5,1) B32(-43.5,3) B33(-42.5,1) B34(-41.5,3) B35(-40.5,1) B36(-39.5,3) B37(-38.5,1) B38(-37.5,3) B39(-36.5,1) B40(-35.5,3) B41(-34.5,1) B42(-33.5,3) B43(-32.5,1) B44(-31.5,3) B45(-30.5,1) B46(-29.5,3) B47(-28.5,1) B48(-27.5,3) B49(-26.5,1) B50(-25.5,3) B51(-24.5,1) B52(-23.5,3) B53(-22.5,1) B54(-21.5,3) B55(-20.5,1) B56(-19.5,3) B57(-18.5,1) B58(-17.5,3) B59(-16.5,1) B60(-15.5,3) B61(-14.5,1) B62(-13.5,3) B63(-12.5,1) B64(-11.5,3) B65(-10.5,1) B66(-9.5,3) B67(-8.5,1) B68(-7.5,3) B69(-6.5,1) B70(-5.5,3) B71(-4.5,1) B72(-3.5,3) B73(-2.5,1) B74(2.5,3) B75(3.5,1) B76(4.5,3) B77(5.5,1) B78(6.5,3) B79(7.5,1) B80(8.5,3) B81(9.5,1) B82(10.5,3) B83(11.5,1) B84(12.5,3) B85(13.5,1) B86(14.5,3) B87(15.5,1) B88(16.5,3) B89(17.5,1) B90(18.5,3) B91(19.5,1) B92(20.5,3) B93(21.5,1) B94(22.5,3) B95(23.5,1) B96(24.5,3) B97(25.5,1) B98(26.5,3) B99(27.5,1) B100(28.5,3) B101(29.5,1) B102(30.5,3) B103(31.5,1) B104(32.5,3) B105(33.5,1) B106(34.5,3) B107(35.5,1) B108(36.5,3) B109(37.5,1) B110(38.5,3) B111(39.5,1) B112(40.5,3) B113(41.5,1) B114(42.5,3) B115(43.5,1) B116(44.5,3) B117(45.5,1) B118(46.5,3) B119(47.5,1) B120(48.5,3) B121(49.5,1)
Top Overlay:
  lines w0.203: -76.5,-1 -76.5,1 ; -1,-0.9 -1,0.9 ; 1,-0.9 1,0.9 ; 50.8,-1 50.8,1 ; -83.9,-19 -70.1,-19 -70.1,-7 45.1,-7 45.1,-19 59,-19 59,19 45.1,19 45.1,7 -70.1,7 -70.1,19 -83.9,19 -83.9,-19
  text "A1" at -77.47,-3.81 h1.97
  text "B2" at -76.835,2.54 h1.97
  text "A121" at 51.435,-3.81 h1.97
  text "B120" at 50.165,2.54 h1.97
Mechanical 16:
  circle w0.102: c-73.32,-8.495 r0.54
  rectangle: -81.87,-6.095 -81.21,-5.495
  rectangle: -81.87,-6.41 -81.855,-6.095
  rectangle: -81.87,-8.855 -81.21,-6.41
  rectangle: -80.925,-8.855 -80.28,-6.35
  rectangle: -79.335,-8.855 -78.675,-6.965
  rectangle: -78.27,-8.465 -77.64,-5.72
  rectangle: -78.615,-6.845 -77.175,-6.41
  rectangle: -74.865,-8.855 -74.235,-5.495
  rectangle: -79.62,-6.44 -79.425,-6.305
  rectangle: -75.57,-9.245 -74.91,-9.185
  rectangle: -75.465,-9.38 -75.045,-9.23
  rectangle: -77.79,-8.855 -74.85,-8.375
  rectangle: -73.545,-8.825 -73.455,-8.165
  rectangle: -73.47,-8.255 -73.26,-8.165
  rectangle: -73.47,-8.555 -73.245,-8.465
  lines w0.051: -73.17,-8.765 -73.14,-8.81 -73.08,-8.81 -73.14,-8.72
  lines w0.102: -73.305,-8.525 -73.14,-8.765 ; -73.26,-8.51 ccw(c-73.26,-8.36) -73.26,-8.21
  lines w0.152: -80.37,-7.115 cw(c-79.598,-7.152) -79.605,-6.38 ; -80.355,-7.355 cw(c-79.768,-7.355) -79.725,-6.77 ; -80.28,-7.01 cw(c-79.571,-7.175) -78.87,-6.98 ; -80.055,-6.815 cw(c-79.562,-7.19) -78.975,-6.995 ; -79.785,-6.725 cw(c-79.578,-7.227) -79.08,-7.01 ; -79.77,-6.77 cw(c-79.737,-7.25) -79.26,-7.19 ; -79.485,-6.755 cw(c-79.698,-7.265) -79.2,-7.025 ; -79.44,-6.38 cw(c-79.434,-7.07) -78.75,-6.98 ; -77.715,-8.285 ccw(c-77.55,-8.285) -77.55,-8.45 ; -77.055,-8.855 ccw(c-75.998,-8.908) -74.985,-9.215 ; -77.055,-8.39 cw(c-76.02,-8.383) -74.985,-8.39 ; -76.56,-8.855 ccw(c-75.847,-8.864) -76.305,-9.41 ; -76.53,-8.39 cw(c-76.028,-8.36) -75.525,-8.39 ; -76.32,-9.395 ccw(c-75.973,-9.005) -75.495,-9.215
  lines w0.203: -76.5,-1 50.8,-1 ; -76.5,1 50.8,1
  lines w0.406: -76.815,-8.84 ccw(c-75.967,-8.877) -75.945,-9.725 ; -75.975,-9.755 ccw(c-75.933,-9.073) -75.285,-9.29
  lines w0.457: -78.045,-8.375 ccw(c-77.79,-8.375) -77.79,-8.63 ; -76.8,-8.42 cw(c-76.02,-8.383) -75.24,-8.39

## VERO-G44 [mil]
pads (2):
  round 126 hole 126: 1(-265,184) 1(-265,3684)
Bottom Layer keep-out:
  lines w40: -50,11 -350,11 -350,361 -50,361 ; -50,3511 -350,3511 -350,3861 -50,3861
Mechanical 16:
  lines w2: 39,3307 -135,3307 -135,3524 -361,3524 -361,3844 40,3844 40,3645 ; 40,24 -361,24 -361,344 40,344 ; 56,-1096 56,3628
  lines w32: 56,3629 506,3629
  text "VERO G44" at 247,2787 h155
  text "PC AT Mounting set" at 297,-263 h155